# EAGLE library part TJA1020 (library Philips-semiconductors2)
Lin Transiver Vbat 5...27Volt 3,3Volt support no extra supply needed ->www.lin-subbus.org ->www.semiconductor.philips.com/pip/tja1020t
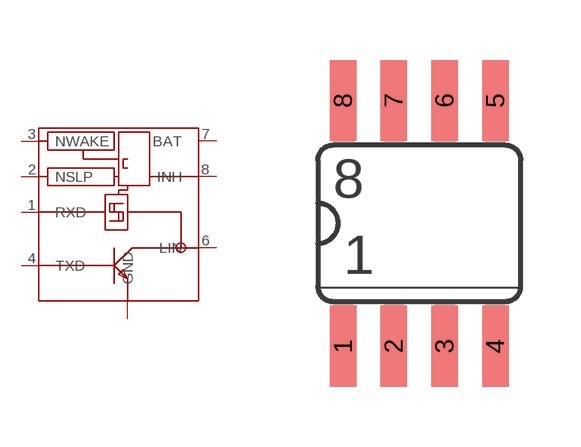
[diagram p9: symbol with the pads of SOT505-1; footprint SOT505-1]

Designator prefix -

## TJA1020SO8  [SOT505-1]
1  RXD  in
2  NSLP  in
3  NWAKE  in
4  TXD  out
5  GND  pwr
6  LIN
7  BAT  pwr
8  INH  out

## Footprint SOT505-1 (pad centres in mm)
smd 0.66 x 2.032: 1 -1.905,-3.073; 2 -0.635,-3.073; 3 0.635,-3.073; 4 1.905,-3.073; 5 1.905,3.073; 6 0.635,3.073; 7 -0.635,3.073; 8 -1.905,3.073